# Altium footprint library HUE.PcbLib: 49 footprints (part 2 of 4)
Each footprint in its own frame and in the unit in brackets; x right, y up, seen from the top. Pads: shape width x height; smd on the part's side, far side on the other; paste and mask are expansions set on the pad; w line width, h text height; cw(c..) or ccw(c..) is an arc to the next point about the centre after c.
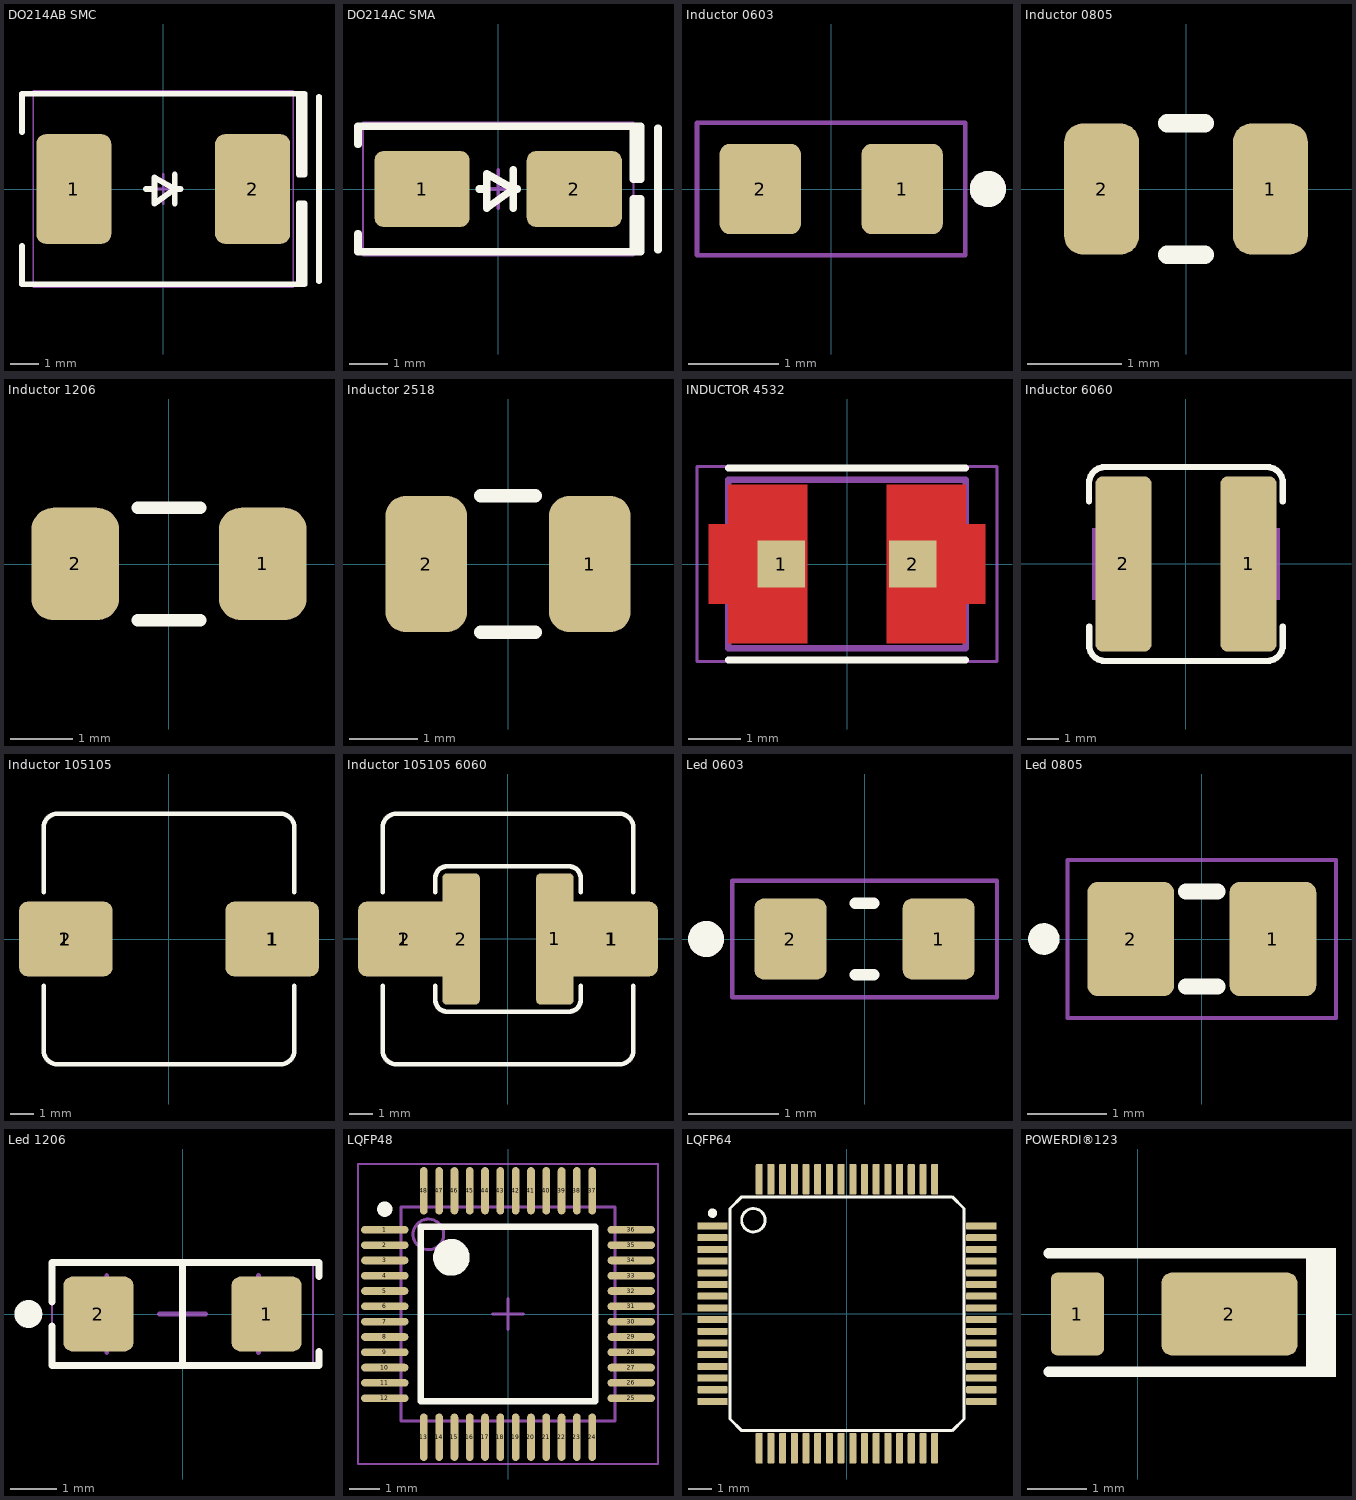
[diagram p1: the footprints below, top view; thin cyan lines are the x and y axes]

## DO214AB SMC [mm] "Molded Diode, 2-Leads, Body 6.85x5.90mm, IPC Medium Density"
height 2.62
pads (2):
  rrect25% 2.6x3.8 smd: 1(-3.1,0) 2(3.1,0)
Top Overlay:
  lines w0.2: -4.9,-1.975 -4.9,-3.3 4.9,-3.3 4.9,-0.5 4.7,-0.5 4.7,-3.3 ; -4.9,1.975 -4.9,3.3 4.9,3.3 4.9,0.5 4.7,0.5 4.7,3.3 ; -0.6,0 -0.3,0 ; 0.4,-0.5 0.4,0.5 ; 0.6,0 0.4,0 ; 5.4,-3.2 5.4,3.2 ; 0.4,0 -0.3,-0.5 -0.3,0.4 0.4,0
Mechanical 15:
  lines w0.05: -4.5,-3.4 4.5,-3.4 4.5,3.4 -4.5,3.4 -4.5,-3.4
  lines w0.1: -0.5,0 0.5,0 ; 0,-0.5 0,0.5
3D body "DO214AB SMC.STEP": height 2.6, standoff 0, extent -3.97,-2.952 3.97,2.952

## DO214AC SMA [mm] "Molded Diode, 2-Leads, Body 4.30x2.60mm, IPC Medium Density"
height 2.4
pads (2):
  rrect25% 2.5x2 smd: 1(-2,0) 2(2,0)
Top Overlay:
  lines w0.2: -3.683,-1.175 -3.683,-1.651 3.75,-1.651 3.75,-0.254 3.556,-0.254 3.556,-1.651 ; -3.683,1.175 -3.683,1.651 3.75,1.651 3.75,0.254 3.556,0.254 3.556,1.651 ; -0.5,0 -0.3,0 ; 0.4,-0.5 0.4,0.5 ; 0.5,0 0.4,0 ; 4.2,-1.6 4.2,1.6 ; 0.4,0 -0.3,0.4 -0.3,-0.5 0.4,0
Mechanical 15:
  lines w0.05: -3.556,-1.75 -3.556,1.75 3.556,1.75 3.556,-1.75 -3.556,-1.75
  lines w0.1: -0.5,0 0.5,0 ; 0,-0.5 0,0.5
3D body "DO214AC SMA.STEP": height 2.4, standoff 0, extent -2.6,-1.375 2.6,1.375

## Inductor 0603 [mm]
pads (2):
  rrect25% 0.9x1 smd: 1(0.785,0) 2(-0.785,0)
Top Overlay:
  circle w0.2: c1.735,0 r0.1
Mechanical 13:
  circle w0.2: c1.735,0 r0.1
Mechanical 15:
  lines w0.05: -1.485,-0.735 -1.485,0.735 1.485,0.735 1.485,-0.735 -1.485,-0.735
3D body "Inductor 0603.STEP": height 0.4, standoff -0.4, extent -0.8,-0.47 0.8,0.48

## Inductor 0805 [mm] "Inductor 0805 (2012)"
height 0.85
pads (2):
  rrect50% 0.8x1.4 smd: 1(0.9,0) 2(-0.9,0)
Top Overlay:
  lines w0.2: -0.2,-0.7 0.2,-0.7 ; -0.2,0.7 0.2,0.7
3D body "Inductor 0805.STEP": height 1.22, standoff -0.03, extent -1,-0.72 1,0.73

## Inductor 1206 [mm] "Inductor 0805 (2012)"
height 0.85
pads (2):
  rrect50% 1.4x1.8 smd: 1(1.5,0) 2(-1.5,0)
Top Overlay:
  lines w0.2: -0.5,-0.9 0.5,-0.9 ; -0.5,0.9 0.5,0.9
3D body "Inductor 1206.STEP": height 0.95, standoff 0, extent -1.6,-0.8 1.6,0.8

## Inductor 2518 [mm] "Inductor 2518"
height 1.8
pads (2):
  rrect50% 1.2x2 smd: 1(1.2,0) 2(-1.2,0)
Top Overlay:
  lines w0.2: -0.4,-1 0.4,-1 ; -0.4,1 0.4,1
3D body "Inductor 2518.STEP": height 0.95, standoff 0, extent -1.6,-0.8 1.6,0.8

## INDUCTOR 4532 [mm]
pads (2):
  rect 0.9x0.9 smd paste-1 mask+0: 1(-1.25,0) 2(1.25,0)
Top Layer:
  region: -0.75,-1.5 -2.25,-1.5 -2.25,-0.75 -2.625,-0.75 -2.625,0.75 -2.25,0.75 -2.25,1.5 -0.75,1.5
  region: 2.25,0.75 2.625,0.75 2.625,-0.75 2.25,-0.75 2.25,-1.5 0.75,-1.5 0.75,1.5 2.25,1.5
Top Overlay:
  lines w0.127: -2.25,-1.82 2.25,-1.82 ; -2.25,1.82 2.25,1.82
Top Paste:
  region: -0.75,-1.5 -2.25,-1.5 -2.25,-0.75 -2.625,-0.75 -2.625,0.75 -2.25,0.75 -2.25,1.5 -0.75,1.5
  region: 2.25,0.75 2.625,0.75 2.625,-0.75 2.25,-0.75 2.25,-1.5 0.75,-1.5 0.75,1.5 2.25,1.5
Top Solder:
  region: -0.65,-1.6 -2.35,-1.6 -2.35,-0.85 -2.718,-0.85 -2.718,0.85 -2.35,0.85 -2.35,1.6 -0.65,1.6
  region: 2.35,0.85 2.718,0.85 2.718,-0.85 2.35,-0.85 2.35,-1.6 0.65,-1.6 0.65,1.6 2.35,1.6
Mechanical 13:
  lines w0.127: -2.25,-1.6 2.25,-1.6 2.25,1.6 -2.25,1.6 -2.25,-1.6
Mechanical 15:
  lines w0.05: -2.845,-1.85 2.845,-1.85 2.845,1.85 -2.845,1.85 -2.845,-1.85
3D body "Inductor 4532.STEP": height 2.8, standoff 0, extent -2.15,-1.7 2.35,1.5

## Inductor 6060 [mm] "Inductor 6.0x6.0"
height 2.4
pads (2):
  rrect25% 1.8x5.6 smd: 1(2,0) 2(-2,0)
Top Overlay:
  lines w0.2: -3.1,-2 -3.1,-2.6 ccw(c-2.6,-2.6) -2.6,-3.1 2.6,-3.1 ccw(c2.6,-2.6) 3.1,-2.6 3.1,-2 ; -3.1,2 -3.1,2.6 cw(c-2.6,2.6) -2.6,3.1 2.6,3.1 cw(c2.6,2.6) 3.1,2.6 3.1,2
Mechanical 15:
  region: -1.85,-2.7 -2.2,-2.4 -2.675,-2.4 -2.675,-1.15 -3,-1.15 -3,1.15 -2.675,1.15 -2.675,2.4 -2.2,2.4 -1.85,2.7 -1.325,2.7 -1.325,-2.7
  region: 1.85,2.7 2.2,2.4 2.675,2.4 2.675,1.15 3,1.15 3,-1.15 2.675,-1.15 2.675,-2.4 2.2,-2.4 1.85,-2.7 1.325,-2.7 1.325,2.7
3D body "Inductor 6060.STEP": height 0, standoff -2.8, extent -3,-3 3,3

## Inductor 105105 [mm] "Inductor 10.5x10.5"
height 4
pads (4):
  rrect50% 2x3 on Mech15: 1(-4.45,0) 1(4.45,0)
  rrect25% 4x3.2 smd: 1(4.4,0) 2(-4.4,0)
Top Overlay:
  lines w0.2: -5.35,-2 -5.35,-4.75 ccw(c-4.75,-4.75) -4.75,-5.35 4.75,-5.35 ccw(c4.75,-4.75) 5.35,-4.75 5.35,-2 ; -5.35,2 -5.35,4.75 cw(c-4.75,4.75) -4.75,5.35 4.75,5.35 cw(c4.75,4.75) 5.35,4.75 5.35,2
3D body "Inductor 105105.STEP": height 5, standoff 0, extent -5.25,-5.1 5.25,5.1

## Inductor 105105 6060 [mm] "Inductor 10.5x105 and 6.0x6.0"
height 4
pads (6):
  rrect50% 2x3 on Mech15: 1(-4.45,0) 1(4.45,0)
  rrect25% 1.6x5.6 smd: 1(2,0) 2(-2,0)
  rrect25% 4x3.2 smd: 1(4.4,0) 2(-4.4,0)
Top Overlay:
  lines w0.2: -5.35,-2 -5.35,-4.75 ccw(c-4.75,-4.75) -4.75,-5.35 4.75,-5.35 ccw(c4.75,-4.75) 5.35,-4.75 5.35,-2 ; -5.35,2 -5.35,4.75 cw(c-4.75,4.75) -4.75,5.35 4.75,5.35 cw(c4.75,4.75) 5.35,4.75 5.35,2 ; -3.1,-2 -3.1,-2.6 ccw(c-2.6,-2.6) -2.6,-3.1 2.6,-3.1 ccw(c2.6,-2.6) 3.1,-2.6 3.1,-2 ; -3.1,2 -3.1,2.6 cw(c-2.6,2.6) -2.6,3.1 2.6,3.1 cw(c2.6,2.6) 3.1,2.6 3.1,2
Mechanical 15:
  region: 1.85,2.7 2.2,2.4 2.675,2.4 2.675,1.15 3,1.15 3,-1.15 2.675,-1.15 2.675,-2.4 2.2,-2.4 1.85,-2.7 1.325,-2.7 1.325,2.7
  region: -1.85,-2.7 -2.2,-2.4 -2.675,-2.4 -2.675,-1.15 -3,-1.15 -3,1.15 -2.675,1.15 -2.675,2.4 -2.2,2.4 -1.85,2.7 -1.325,2.7 -1.325,-2.7
3D body "Inductor 105105.STEP": height 5, standoff 0, extent -5.25,-5.1 5.25,5.1

## Led 0603 [mm]
height 0.65
pads (2):
  rrect25% 0.8x0.9 smd: 1(0.825,0) 2(-0.825,0)
Top Overlay:
  circle w0.2: c-1.765,0 r0.1
  lines w0.127: -0.105,-0.4 0.105,-0.4 ; -0.105,0.4 0.105,0.4
Mechanical 13:
  circle w0.2: c-1.765,0 r0.1
Mechanical 15:
  lines w0.05: -1.475,-0.65 -1.475,0.65 1.475,0.65 1.475,-0.65 -1.475,-0.65
3D body "Led 0603.STEP": height 0.55, standoff 0, extent -0.8,-0.4 0.8,0.4

## Led 0805 [mm]
pads (2):
  rrect25% 1.1x1.45 smd: 1(0.9,0) 2(-0.9,0)
Top Overlay:
  circle w0.2: c-2,0 r0.1
  lines w0.2: -0.2,-0.6 0.2,-0.6 ; -0.2,0.6 0.2,0.6
Mechanical 15:
  lines w0.05: -1.7,-1 -1.7,1 1.7,1 1.7,-1 -1.7,-1
3D body "Led 0805.STEP": height 0.9, standoff 0, extent -1,-0.65 1,0.65

## Led 1206 [mm]
height 0.7
pads (2):
  rrect25% 1.5x1.6 smd: 1(1.8,0) 2(-1.8,0)
Top Overlay:
  circle w0.2: c-3.3,0 r0.2
  circle w0.2: c-3.3,0 r0.1
  lines w0.15: -2.794,-0.254 -2.794,-1.1 2.921,-1.1 2.921,-0.8 ; -2.794,0.254 -2.794,1.1 2.921,1.1 2.921,0.8 ; 0,-1.1 0,1.1
Mechanical 13:
  lines w0.1: -1.625,-0.825 -1.625,0.825 ; 1.625,-0.825 1.625,0.825
Mechanical 15:
  lines w0.05: -2.794,-1.1 -2.794,1.1 2.794,1.1 2.794,-1.1 -2.794,-1.1
  lines w0.1: -0.5,0 0.5,0 ; 0,-0.5 0,0.5
3D body "Led 1206.STEP": height 1.1, standoff 0, extent -1.6,-0.8 1.6,0.8

## LQFP48 [mm] "QFP, 48-Leads, Body 7x7mm, Pitch 0.5mm, IPC High Density"
height 1.6
pads (48):
  oval 1.55x0.25 smd: 1(-4.025,2.75) 2(-4.025,2.25) 3(-4.025,1.75) 4(-4.025,1.25) 5(-4.025,0.75) 6(-4.025,0.25) 7(-4.025,-0.25) 8(-4.025,-0.75) 9(-4.025,-1.25) 10(-4.025,-1.75) 11(-4.025,-2.25) 12(-4.025,-2.75) 25(4.025,-2.75) 26(4.025,-2.25) 27(4.025,-1.75) 28(4.025,-1.25) 29(4.025,-0.75) 30(4.025,-0.25) 31(4.025,0.25) 32(4.025,0.75) 33(4.025,1.25) 34(4.025,1.75) 35(4.025,2.25) 36(4.025,2.75)
  oval 0.25x1.55 smd: 13(-2.75,-4.025) 14(-2.25,-4.025) 15(-1.75,-4.025) 16(-1.25,-4.025) 17(-0.75,-4.025) 18(-0.25,-4.025) 19(0.25,-4.025) 20(0.75,-4.025) 21(1.25,-4.025) 22(1.75,-4.025) 23(2.25,-4.025) 24(2.75,-4.025) 37(2.75,4.025) 38(2.25,4.025) 39(1.75,4.025) 40(1.25,4.025) 41(0.75,4.025) 42(0.25,4.025) 43(-0.25,4.025) 44(-0.75,4.025) 45(-1.25,4.025) 46(-1.75,4.025) 47(-2.25,4.025) 48(-2.75,4.025)
Top Overlay:
  circle w0.25: c-4.025,3.425 r0.125
  circle w0.6: c-1.85,1.85 r0.3
  lines w0.2: -2.85,-2.85 -2.85,2.85 2.85,2.85 2.85,-2.85 -2.85,-2.85
Mechanical 13:
  circle w0.1: c-2.6,2.6 r0.5
  lines w0.1: -3.5,-3.5 -3.5,3.5 3.5,3.5 3.5,-3.5 -3.5,-3.5
Mechanical 15:
  lines w0.05: -4.9,-4.9 -4.9,4.9 4.9,4.9 4.9,-4.9 -4.9,-4.9
  lines w0.1: -0.5,0 0.5,0 ; 0,-0.5 0,0.5
3D body "STM32 LQFP48.step": height 1.5, standoff 0, extent -4.509,-4.509 4.509,4.509

## LQFP64 [mm] "LQFP64 - 64-pin, 10 x 10 mm low-profile quad flat  package"
height 1.6
pads (64):
  rrect25% 1.3x0.3 smd mask+0.075: 1(-5.75,3.75) 2(-5.75,3.25) 3(-5.75,2.75) 4(-5.75,2.25) 5(-5.75,1.75) 6(-5.75,1.25) 7(-5.75,0.75) 8(-5.75,0.25) 9(-5.75,-0.25) 10(-5.75,-0.75) 11(-5.75,-1.25) 12(-5.75,-1.75) 13(-5.75,-2.25) 14(-5.75,-2.75) 15(-5.75,-3.25) 16(-5.75,-3.75) 33(5.75,-3.75) 34(5.75,-3.25) 35(5.75,-2.75) 36(5.75,-2.25) 37(5.75,-1.75) 38(5.75,-1.25) 39(5.75,-0.75) 40(5.75,-0.25) 41(5.75,0.25) 42(5.75,0.75) 43(5.75,1.25) 44(5.75,1.75) 45(5.75,2.25) 46(5.75,2.75) 47(5.75,3.25) 48(5.75,3.75)
  rrect25% 0.3x1.3 smd mask+0.075: 17(-3.75,-5.75) 18(-3.25,-5.75) 19(-2.75,-5.75) 20(-2.25,-5.75) 21(-1.75,-5.75) 22(-1.25,-5.75) 23(-0.75,-5.75) 24(-0.25,-5.75) 25(0.25,-5.75) 26(0.75,-5.75) 27(1.25,-5.75) 28(1.75,-5.75) 29(2.25,-5.75) 30(2.75,-5.75) 31(3.25,-5.75) 32(3.75,-5.75) 49(3.75,5.75) 50(3.25,5.75) 51(2.75,5.75) 52(2.25,5.75) 53(1.75,5.75) 54(1.25,5.75) 55(0.75,5.75) 56(0.25,5.75) 57(-0.25,5.75) 58(-0.75,5.75) 59(-1.25,5.75) 60(-1.75,5.75) 61(-2.25,5.75) 62(-2.75,5.75) 63(-3.25,5.75) 64(-3.75,5.75)
Top Overlay:
  circle w0.2: c-5.75,4.3 r0.1
  circle w0.127: c-4,4 r0.5
  lines w0.127: -5,-4.5 -4.5,-5 4.5,-5 5,-4.5 5,4.5 4.5,5 -4.5,5 -5,4.5 -5,-4.5
Top Solder:
  drawing of 64 lines, arcs and shapes, not listed
3D body "LQFP64.STEP": height 1.6, standoff 0, extent -6,-6 6,6

## POWERDI®123 [mm]
pads (2):
  rrect25% 0.9x1.4 smd: 1(-1.021,0)
  rrect25% 2.3x1.4 smd: 2(1.55,0)
Top Overlay:
  region: 3.353,1.118 2.845,1.118 2.845,-1.067 3.353,-1.067
  lines w0.178: -1.505,-0.978 3.2,-0.978 ; -1.505,1.029 3.2,1.029
Mechanical 5:
  region: 3.353,1.118 2.845,1.118 2.845,-1.067 3.353,-1.067
  lines w0.127: -1.505,-0.978 3.2,-0.978 ; -1.505,1.029 3.2,1.029
3D body "POWERDI123.STEP": height 1, standoff 0, extent -1.25,-0.89 2.45,0.89